# Altium footprint library CHIP_CA064_KEMET.PcbLib: 1 footprints
Each footprint in its own frame and in the unit in brackets; x right, y up, seen from the top. Pads: shape width x height; smd on the part's side, far side on the other; paste and mask are expansions set on the pad; w line width, h text height; cw(c..) or ccw(c..) is an arc to the next point about the centre after c.
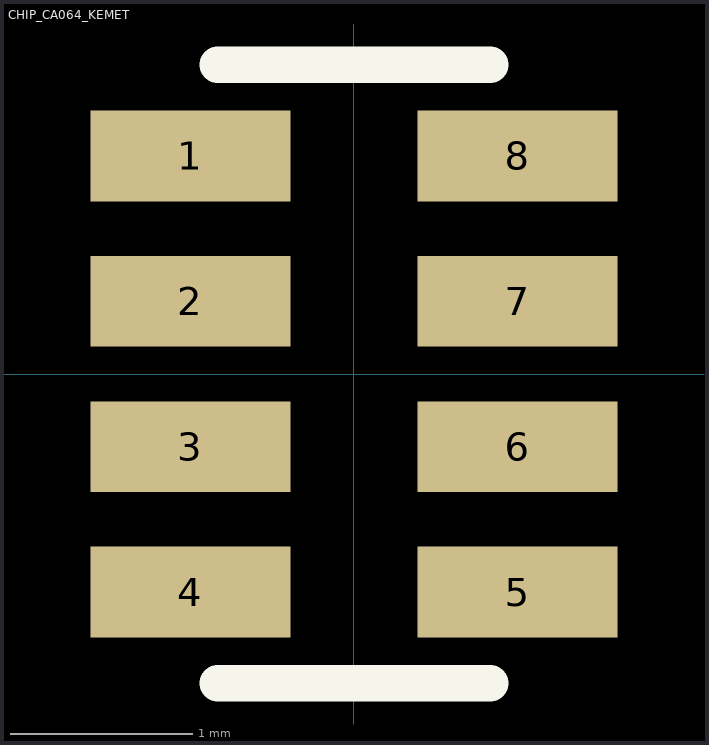
[diagram p0: the footprint, top view; thin cyan lines are the x and y axes]

## CHIP_CA064_KEMET [mm]
pads (8):
  rect 1.1x0.5 smd mask+0.075: 1(-0.9,1.2) 2(-0.9,0.4) 3(-0.9,-0.4) 4(-0.9,-1.2) 5(0.9,-1.2) 6(0.9,-0.4) 7(0.9,0.4) 8(0.9,1.2)
Top Overlay:
  lines w0.2: -0.75,-1.7 0.75,-1.7 ; -0.75,1.7 0.75,1.7
3D body: height 1.02, standoff 0, extent 0,0 0,0
3D body: height 0.8, standoff 0, extent -0.8,-1.6 0.8,1.6
3D body: height 0.82, standoff 0, extent -0.85,-1.425 -0.55,-0.975
3D body: height 0.82, standoff 0, extent 0.55,-1.425 0.85,-0.975
3D body: height 0.82, standoff 0, extent 0.55,0.975 0.85,1.425
3D body: height 0.82, standoff 0, extent -0.85,-0.625 -0.55,-0.175
3D body: height 0.82, standoff 0, extent 0.55,-0.625 0.85,-0.175
3D body: height 0.82, standoff 0, extent 0.55,0.175 0.85,0.625
3D body: height 0.82, standoff 0, extent -0.85,0.975 -0.55,1.425
3D body: height 0.82, standoff 0, extent -0.85,0.175 -0.55,0.625